# EAGLE library part CC1120 (library RF)
CC1120 High-Performance RF Transceiver for Narrowband Systems Datasheet <http://www.ti.com/lit/ds/symlink/cc1120.pdf>
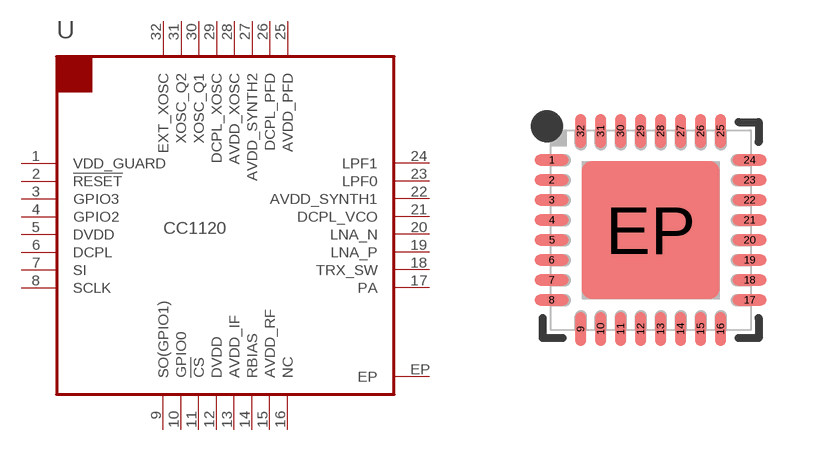
[diagram p5: symbol with the pads of S-PVQFN-N32; footprint S-PVQFN-N32]

Designator prefix U

## CC1120RHB (DATASHEET: http://www.ti.com/lit/ds/symlink/cc1120.pdf; DESC: IC RF TXRX+MCU ISM<1GHZ 32-VFQFN; FREQ: 164MHz ~ 192MHz, 274MHz ~ 320MHz, 410MHz ~ 480MHz, 820MHz ~ 960MHz; MANF: Texas Instruments; MFPN: CC1120RHBR; PARTNO: 01-100548-00; STATUS: Active; TEMP: -40°C ~ 85°C; TYPE: TxRx + MCU; VSUP: 2 V ~ 3.6 V)  [S-PVQFN-N32]
1  VDD_GUARD  pwr
2  !RESET  in
3  GPIO3
4  GPIO2
5  DVDD  pwr
6  DCPL  pwr
7  SI  in
8  SCLK  in
9  SO(GPIO1)  out
10  GPIO0
11  !CS  in
12  DVDD
13  AVDD_IF  pwr
14  RBIAS  pas
15  AVDD_RF  pwr
16  NC  nc
17  PA  pas
18  TRX_SW  pas
19  LNA_P  pas
20  LNA_N  pas
21  DCPL_VCO  pwr
22  AVDD_SYNTH1  pwr
23  LPF0  pas
24  LPF1  pas
25  AVDD_PFD  pwr
26  DCPL_PFD  pwr
27  AVDD_SYNTH2  pwr
28  AVDD_XOSC  pwr
29  DCPL_XOSC  pwr
30  XOSC_Q1  pas
31  XOSC_Q2  pas
32  EXT_XOSC  in
EP  EP  pwr

## Footprint S-PVQFN-N32 (pad centres in mm)
32 POS Plastic Quad Flatpack No-Lead Texas Instruments RHB Changelog: 01/05/16: Created for CC1120
smd 0.85 x 0.28: 1 -2.475,1.75; 2 -2.475,1.25; 3 -2.475,0.75; 4 -2.475,0.25; 5 -2.475,-0.25; 6 -2.475,-0.75; 7 -2.475,-1.25; 8 -2.475,-1.75; 17 2.475,-1.75; 18 2.475,-1.25; 19 2.475,-0.75; 20 2.475,-0.25; 21 2.475,0.25; 22 2.475,0.75; 23 2.475,1.25; 24 2.475,1.75
smd 0.28 x 0.85: 9 -1.75,-2.475; 10 -1.25,-2.475; 11 -0.75,-2.475; 12 -0.25,-2.475; 13 0.25,-2.475; 14 0.75,-2.475; 15 1.25,-2.475; 16 1.75,-2.475; 25 1.75,2.475; 26 1.25,2.475; 27 0.75,2.475; 28 0.25,2.475; 29 -0.25,2.475; 30 -0.75,2.475; 31 -1.25,2.475; 32 -1.75,2.475
smd 3.45 x 3.45: EP 0,0